# Altium footprint library PcbLib1.PcbLib: 1 footprints
Each footprint in its own frame and in the unit in brackets; x right, y up, seen from the top. Pads: shape width x height; smd on the part's side, far side on the other; paste and mask are expansions set on the pad; w line width, h text height; cw(c..) or ccw(c..) is an arc to the next point about the centre after c.
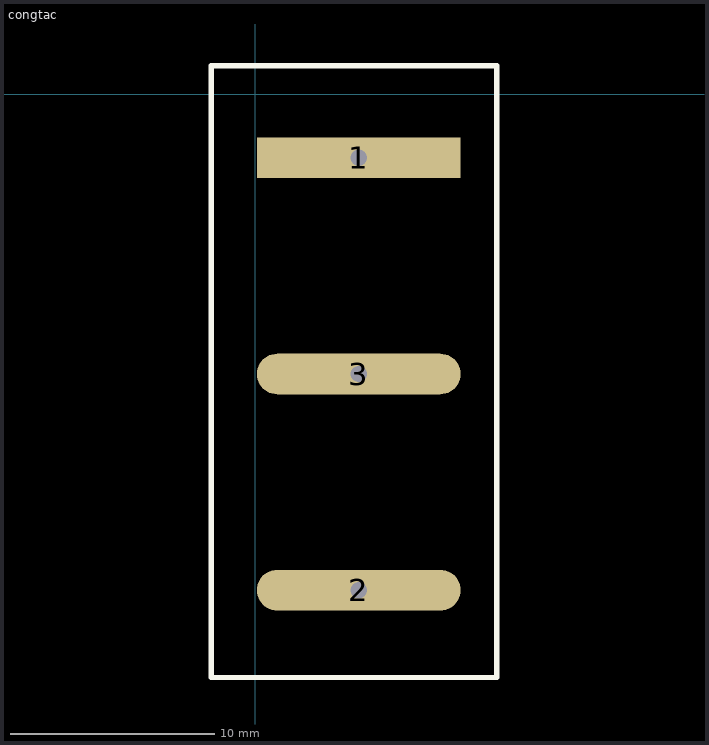
[diagram p0: the footprint, top view; thin cyan lines are the x and y axes]

## congtac [mm]
height 38.1
pads (3):
  rect 10x2 hole 0.8 square mask+0.102: 1(5.073,-3.116)
  oval 10x2 hole 0.8 square: 2(5.073,-24.316) 3(5.073,-13.716)
Top Overlay:
  lines w0.254: -2.159,-28.603 11.841,-28.603 11.841,1.397 -2.159,1.397 -2.159,-28.603